# EAGLE library part CPL-USB-FT232RL (library TinWhiskers)
USB UART IC: FTDI (FT232RL); Package: 28-SSOP; Datasheet: http://www.ftdichip.com/Support/Documents/DataSheets/ICs/DS_FT232R.pdf
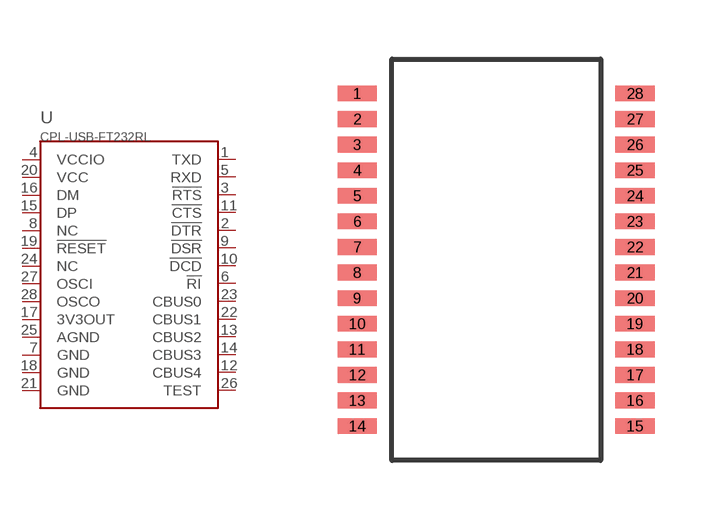
[diagram p24: symbol with the pads of 28-SSOP; footprint 28-SSOP]

Designator prefix U

## CPL-USB-FT232RL  [28-SSOP]
1  TXD
2  !DTR
3  !RTS
4  VCCIO
5  RXD
6  !RI
7  GND
8  NC
9  !DSR
10  !DCD
11  !CTS
12  CBUS4
13  CBUS2
14  CBUS3
15  DP
16  DM
17  3V3OUT
18  GND
19  !RESET
20  VCC
21  GND
22  CBUS1
23  CBUS0
24  NC
25  AGND
26  TEST
27  OSCI
28  OSCO

## Footprint 28-SSOP (pad centres in mm)
28-SSOP; Source: FTDI
smd 1 x 0.4: 1 -3.525,4.225; 2 -3.525,3.575; 3 -3.525,2.925; 4 -3.525,2.275; 5 -3.525,1.625; 6 -3.525,0.975; 7 -3.525,0.325; 8 -3.525,-0.325; 9 -3.525,-0.975; 10 -3.525,-1.625; 11 -3.525,-2.275; 12 -3.525,-2.925; 13 -3.525,-3.575; 14 -3.525,-4.225; 15 3.525,-4.225; 16 3.525,-3.575; 17 3.525,-2.925; 18 3.525,-2.275; 19 3.525,-1.625; 20 3.525,-0.975; 21 3.525,-0.325; 22 3.525,0.325; 23 3.525,0.975; 24 3.525,1.625; 25 3.525,2.275; 26 3.525,2.925; 27 3.525,3.575; 28 3.525,4.225